# EAGLE library part TPS552892QWRYQRQ1 (library TPS552892QWRYQRQ1)
Switching Voltage Regulators Automotive 36-V, 8-A fully integrated buck-boost converter 21-VQFN-HR -40 to 125 Source: Datasheet <https://www.ti.com/general/docs/suppproductinfo.tsp?distId=26&gotoUrl=https://www.ti.com/lit/gpn/tps552892-q1>
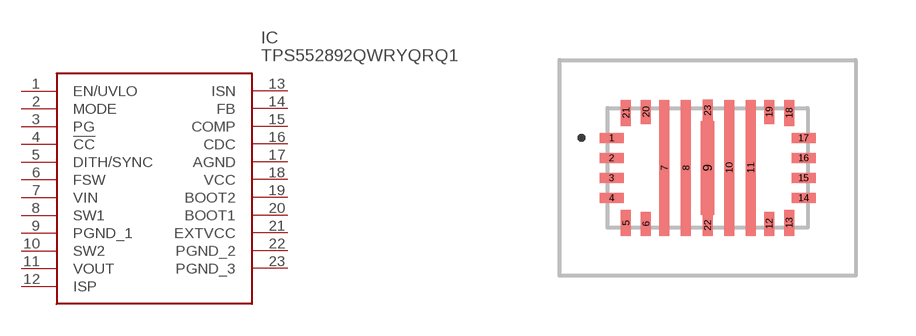
[diagram p0: symbol with the pads of TPS552892QWRYQRQ1; footprint TPS552892QWRYQRQ1]

Designator prefix IC

## TPS552892QWRYQRQ1 (Description: Switching Voltage Regulators Automotive 36-V, 8-A fully integrated buck-boost converter 21-VQFN-HR -40 to 125; Height: 1mm; Manufacturer_Name: Texas Instruments; Manufacturer_Part_Number: TPS552892QWRYQRQ1; Mouser_Part_Number: 595-PS552892QWRYQRQ1; Mouser_Price-Stock: https://www.mouser.co.uk/ProductDetail/Texas-Instruments/TPS552892QWRYQRQ1?qs=ulEaXIWI0c%2Fb5I1dUhUhNg%3D%3D)  [TPS552892QWRYQRQ1]
1  EN/UVLO
2  MODE
3  PG
4  !CC
5  DITH/SYNC
6  FSW
7  VIN
8  SW1
9  PGND_1
10  SW2
11  VOUT
12  ISP
13  ISN
14  FB
15  COMP
16  CDC
17  AGND
18  VCC
19  BOOT2
20  BOOT1
21  EXTVCC
22  PGND_2
23  PGND_3

## Footprint TPS552892QWRYQRQ1 (pad centres in mm)
RYQ0021B
smd 0.6 x 0.25: 1 -2.4,0.75; 2 -2.4,0.25; 3 -2.4,-0.25; 4 -2.4,-0.75; 14 2.4,-0.75; 15 2.4,-0.25; 16 2.4,0.25; 17 2.4,0.75
smd 0.25 x 0.65: 5 -2.04,-1.375; 13 2.04,-1.375; 18 2.04,1.375; 21 -2.04,1.375
smd 0.25 x 0.6: 6 -1.54,-1.4; 12 1.54,-1.4; 19 1.54,1.4; 20 -1.54,1.4
smd 0.25 x 3.4: 7 -1.08,0; 8 -0.54,0; 10 0.54,0; 11 1.08,0
smd 0.33 x 2.35: 9 0,0
smd 0.25 x 0.525: 22 0,-1.438; 23 0,1.438